# EAGLE library part TPS61093 (library ic-TI)
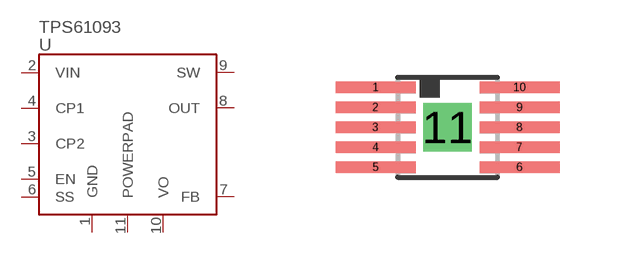
[diagram p5: symbol with the pads of SON10_2.5_0.5; footprint SON10_2.5_0.5]

Designator prefix U

## TPS61093  [SON10_2.5_0.5]
1  GND
2  VIN
3  CP2
4  CP1
5  EN
6  SS
7  FB
8  OUT
9  SW
10  VO
11  POWERPAD

## Footprint SON10_2.5_0.5 (pad centres in mm)
smd 2 x 0.297: 1 -1.8,1; 2 -1.8,0.5; 3 -1.8,0; 4 -1.8,-0.5; 5 -1.8,-1; 6 1.8,-1; 7 1.8,-0.5; 8 1.8,0; 9 1.8,0.5; 10 1.8,1
drill 0.7 pad 1.106 square: 11 0,0